# Altium schematic symbol library Shift Register.SchLib: 3 symbols
Pins are listed as number, name and electrical type; pins without a type are passive.

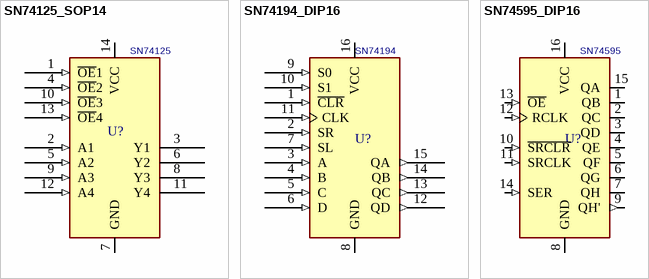
[diagram p0: symbols SN74125_SOP14 to SN74595_DIP16]

## SN74125_SOP14
designator U?, comment SN74125
Shift Register, 4-Bit; MANF_P#: SN74125; VALUE: SN74125
footprint SO_14 (SOP, SOIC, 3.9mm width, 1.27mm pitch,)
pins: 1 ~{OE}1 (in), 2 A1 (in), 3 Y1 (hiz), 4 ~{OE}2 (in), 5 A2 (in), 6 Y2 (hiz), 7 GND (power), 8 Y3 (hiz), 9 A3 (in), 10 ~{OE}3 (in), 11 Y4 (hiz), 12 A4 (in), 13 ~{OE}4 (in), 14 VCC (power)

## SN74194_DIP16
designator U?, comment SN74194
Shift Register, 4-Bit, Bidirectional Universal; MANF_P#: SN74194N; VALUE: SN74194
footprint DIP_16 (DIP, pitch 2.54mm, 300mil Width)
pins: 1 ~{CLR} (in), 2 SR (in), 3 A (in), 4 B (in), 5 C (in), 6 D (in), 7 SL (in), 8 GND (power), 9 S0 (in), 10 S1 (in), 11 CLK (in), 12 QD (out), 13 QC (out), 14 QB (out), 15 QA (out), 16 VCC (power)

## SN74595_DIP16
designator U?, comment SN74595
Shift Register, 8-Bit, with 3-State Output Registers; MANF_P#: SN74595; VALUE: SN74595
footprint DIP_16 (DIP, pitch 2.54mm, 300mil Width)
pins: 1 QB (hiz), 2 QC (hiz), 3 QD (hiz), 4 QE (hiz), 5 QF (hiz), 6 QG (hiz), 7 QH (hiz), 8 GND (power), 9 QH' (out), 10 ~{SRCLR} (in), 11 SRCLK (in), 12 RCLK (in), 13 ~{OE} (in), 14 SER (in), 15 QA (hiz), 16 VCC (power)